# Altium schematic symbol library roboARM.SchLib: 22 symbols
Pins are listed as number, name and electrical type; pins without a type are passive.

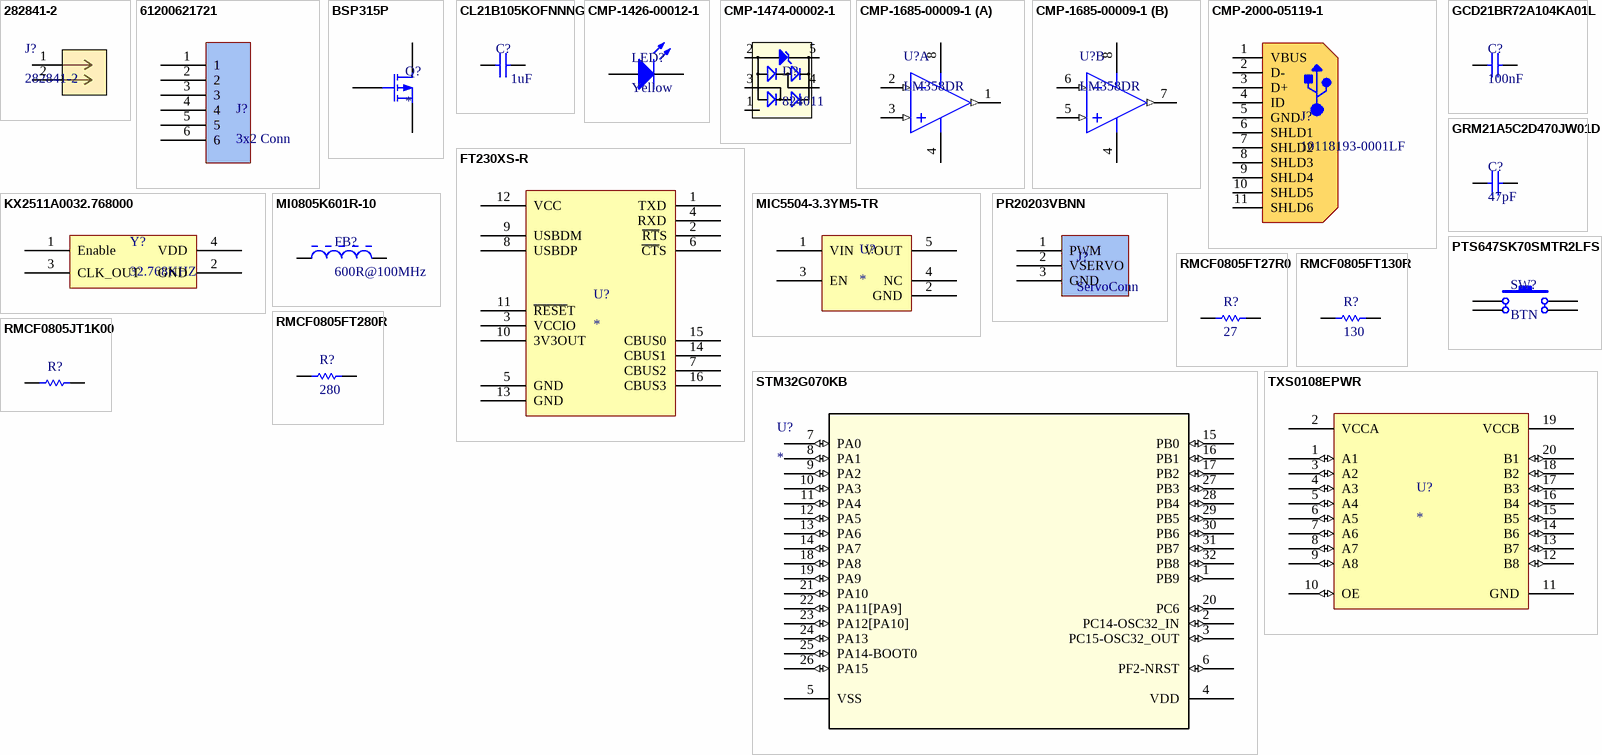
[diagram p0: symbols 282841-2 to TXS0108EPWR]

## 282841-2
designator J?
No Description Available; Manufacturer 1: CUI; Manufacturer Part Number 1: TB001-500-02BE; Vendor: TE Connectivity; Built_By: EMA_UL_Team; Manufacturer_Part_Number: 282841-2; Copyright: Copyright (C) 2016 Accelerated Designs. All rights reserved; RefDes: RefDes; Type: DEV; Value: Value; Supplier 1: Digi-Key; Stock 1: 347; Pricing 1: 1=0,59000, 10=0,32200, 25=0,24040, 50=0,21420, 100=0,21000, 250=0,18480, 500=0,16800, 1000=0,15120, 5000=0,11340 (USD); RoHS: No; Supplier Part Number 1: 102-6134-ND
footprint Clema
pins: 1, 2

## 61200621721
designator J?, comment 3x2 Conn
WURTH ELEKTRONIK         61200621721            Wire-To-Board Connector, WR-BHD Series, Through Hole, Header, 6 Contacts, 2.54 mm; Manufacturer 1: Wurth Electronics; Number of Positions: 6; Gender: Male; Connector Type: Male Pin; Pitch: 0.1inch; Supplier 1: Digi-Key; Manufacturer Part Number 1: 61200621721; Stock 1: 1980; Pricing 1: 1=1,09000, 10=1,05000, 50=0,92200, 100=0,79500, 360=0,66800, 720=0,57300 (USD); RoHS: Yes; Mount: Through Hole; Contact Plating: Gold; Contact Material: Copper; Color: Black; Number of Rows: 2; Packaging: Tray; Termination: Solder; Number of Contacts: 6; Row Spacing: 0.1inch; REACH SVHC: Unknown; ComponentLink1URL: https://datasheet.ciiva.com/28391/76598-28391952.pdf?src-supplier=Element14; ComponentLink1Description: https://datasheet.ciiva.com/28391/76598-28391952.pdf?src-supplier=Element14; Supplier Part Number 1: 732-5404-ND
footprint 61200621721 (6 pins, right angled, gold plating)
pins: 1, 2, 3, 4, 5, 6

## BSP315P
designator Q?
MOSFET, P, LOGIC, SOT-223; Manufacturer 1: Infineon; Manufacturer Part Number 1: BSP315P; Max Power Dissipation: 1.8W; Recovery Time: 46ns; Continuous Drain Current (ID): 1.17A; Nominal Vgs: -1.5V; Dual Supply Voltage: -60V; Supplier 1: Digi-Key; Stock 1: 1653; Pricing 1: 1=0,72000, 10=0,63700, 100=0,43450, 500=0,36308 (USD); RoHS: Yes; Case/Package: SOT-223; Number of Pins: 4; Min Operating Temperature: -55°C; Max Operating Temperature: 150°C; Packaging: Tape and Reel; Power Dissipation: 1.8W; Threshold Voltage: -1.5V; Termination: SMD/SMT; Width: 6.7mm; Halogen Free: Halogen Free; REACH SVHC: No SVHC; ComponentLink1URL: https://datasheet.ciiva.com/5774/46005-5774549.pdf?src-supplier=Farnell; ComponentLink1Description: https://datasheet.ciiva.com/5774/46005-5774549.pdf?src-supplier=Farnell; ComponentLink2URL: https://datasheet.ciiva.com/14109/jf611678-e-14109751.pdf?src-supplier=Distrelec; ComponentLink2Description: https://datasheet.ciiva.com/14109/jf611678-e-14109751.pdf?src-supplier=Distrelec; ComponentLink3URL: https://datasheet.ciiva.com/1190/46005-1190007.pdf?src-supplier=Element14; ComponentLink3Description: https://datasheet.ciiva.com/1190/46005-1190007.pdf?src-supplier=Element14; ComponentLink4URL: https://datasheet.ciiva.com/1190/46005-1190008.pdf?src-supplier=Element14; ComponentLink4Description: https://datasheet.ciiva.com/1190/46005-1190008.pdf?src-supplier=Element14; Supplier Part Number 1: BSP315PH6327XTSA1CT-ND
footprint INF-PG-SOT223_SC-73_M (SOT223, 4-Leads, Body 6.5x3.5mm, Pitch 2.3mm, IPC Low Density)
pins: 1 G, 2 D, 3 S

## CL21B105KOFNNNG
designator C?  Capacitance: 1uF  (hidden comment: CL21B105KOFNNNG)
Cap Ceramic 1uF 16V X7R 10% SMD 0805 125C Embossed T/R; Manufacturer: Samsung; Supplier 1: Digi-Key; Manufacturer Part Number: CL21B105KOFNNNG; Stock 1: 433201; Pricing 1: 1=0.1, 10=0.047, 100=0.0211, 500=0.0151, 1000=0.0119 (USD); Mount: Surface Mount; Case/Package: 0805; Case Code (Metric): 2012; Case Code (Imperial): 0805; Material: Ceramic; Min Operating Temperature: -55°C; Max Operating Temperature: 125°C; Package Quantity: 3000; Packaging: Tape and Reel; Voltage Rating: 16V; Tolerance: 10%; Dielectric: X7R; Voltage: 16V; Length: 2mm; Height: 1.25mm; Width: 0.049inch; Thickness: 0.053inch; Depth: 1.25mm; Lead Free: Lead Free; ComponentLink1URL: http://www.samsungsem.com/global/support/library/product-catalog/__icsFiles/afieldfile/2014/11/13/MLCC.pdf?src-supplier=Digi-Key; ComponentLink1Description: http://www.samsungsem.com/global/support/library/product-catalog/__icsFiles/afieldfile/2014/11/13/MLCC.pdf?src-supplier=Digi-Key; ComponentLink2URL: http://www1.futureelectronics.com/doc/SAMSUNG%20PASSIVE/CL05B104KQ5NNNC.pdf?src-supplier=Future+Electronics; ComponentLink2Description: http://www1.futureelectronics.com/doc/SAMSUNG%20PASSIVE/CL05B104KQ5NNNC.pdf?src-supplier=Future+Electronics; ComponentLink3URL: https://www.distrelec.biz/Web/Downloads/_e/ng/MLCC_CatalogDownload2013_ENG.pdf?mime=application%2Fpdf&src-supplier=Distrelec; ComponentLink3Description: https://www.distrelec.biz/Web/Downloads/_e/ng/MLCC_CatalogDownload2013_ENG.pdf?mime=application%2Fpdf&src-supplier=Distrelec; ComponentLink4URL: https://produktinfo.conrad.com/datenblaetter/450000-474999/455935-da-01-en-VS_KONDENSATOR_0805.pdf?src-supplier=Conrad; ComponentLink4Description: https://produktinfo.conrad.com/datenblaetter/450000-474999/455935-da-01-en-VS_KONDENSATOR_0805.pdf?src-supplier=Conrad; Supplier Part Number 1: 1276-6471-1-ND
footprint CAPC2012X10N (Chip Capacitor, 2-Leads, Body 2,00x1,25mm, IPC Medium Density)
pins: 1, 2

## CMP-1426-00012-1
designator LED?, comment Yellow
SMD mono-color Chip LED, WL-SMCW, Yellow; Manufacturer: Wuerth Elektronik; PartNumber: 150080YS75000; Manufacturer 1: Wurth Electronics; Luminous Intensity: 120mcd; Forward Current: 30mA; Forward Voltage: 2V; Viewing Angle: 140°; Wavelength: 590nm; Lens Style: Clear,Rectangular; Test Current: 20mA; Color: Yellow; ComponentLink1URL: http://www.we-online.com; PackageReference: 0805_A; ComponentLink2URL: http://katalog.we-online.com/led/datasheet/150080YS75000.pdf; ComponentLink1Description: Manufacturer URL; ComponentLink2Description: Datasheet; Supplier 1: Digi-Key; Manufacturer Part Number 1: 150080YS75000; Stock 1: 14510; Pricing 1: 1=0,18000, 50=0,16500, 100=0,14200, 500=0,12300 (USD); RoHS: Yes; Mount: Surface Mount; Case/Package: 0805; Case Code (Metric): 2012; Case Code (Imperial): 0805; Min Operating Temperature: -40°C; Max Operating Temperature: 85°C; Package Quantity: 4000; Packaging: Tape and Reel; Dominant Wavelength: 590nm; Length: 2mm; Height: 0.7mm; Width: 1.25mm; REACH SVHC: Unknown; ComponentLink3URL: https://datasheet.ciiva.com/23843/150080ys75000-23843256.pdf?src-supplier=Newark; ComponentLink3Description: https://datasheet.ciiva.com/23843/150080ys75000-23843256.pdf?src-supplier=Newark; ComponentLink4URL: https://datasheet.ciiva.com/29279/759438-da-01-en-chipled-0805-w-kl-gelb-150080ys75000-29279034.pdf?src-supplier=Conrad; ComponentLink4Description: https://datasheet.ciiva.com/29279/759438-da-01-en-chipled-0805-w-kl-gelb-150080ys75000-29279034.pdf?src-supplier=Conrad; ComponentLink5URL: https://datasheet.ciiva.com/22656/1911353-22656971.pdf?src-supplier=Element14; ComponentLink5Description: https://datasheet.ciiva.com/22656/1911353-22656971.pdf?src-supplier=Element14; ComponentLink6URL: https://datasheet.ciiva.com/29563/150080ys75000-29563019.pdf?src-supplier=Digi-Key; ComponentLink6Description: https://datasheet.ciiva.com/29563/150080ys75000-29563019.pdf?src-supplier=Digi-Key; ComponentLink7URL: https://datasheet.ciiva.com/29563/150080ys75000-29563020.pdf?src-supplier=Digi-Key; ComponentLink7Description: https://datasheet.ciiva.com/29563/150080ys75000-29563020.pdf?src-supplier=Digi-Key; ComponentLink8URL: https://datasheet.ciiva.com/29563/150080ys75000-29563021.pdf?src-supplier=Digi-Key; ComponentLink8Description: https://datasheet.ciiva.com/29563/150080ys75000-29563021.pdf?src-supplier=Digi-Key; Supplier Part Number 1: 732-4987-1-ND
footprint LED_0805 (Chip LED, 2-Leads, Body 2.0x1.3mm, IPC Medium Density)
pins: 1 K, 2 A

## CMP-1474-00002-1
designator D?, comment 824011
TVS Diode WE-TVS-HS, VRWM=5V; Manufacturer: Wuerth Elektronik; Manufacturer 1: Wurth Electronics; Reverse Stand Off Voltage: 5V; Direction: Unidirectional; Capacitance: 2pF; Polarity: Bidirectional; Number of Bidirectional Channels: 2; Min Breakdown Voltage: 6.1V; Clamping Voltage: 8.5V; Power Line Protection: Yes; Max Reverse Leakage Current: 5A; Test Current: 1mA; Max Surge Current: 12A; Operating Supply Voltage: 6V; ComponentLink2Description: Datasheet; PackageReference: SOT23_5L; ComponentLink2URL: http://katalog.we-online.de/kataloge/eisos/media/pdf/824011.pdf; ComponentLink1Description: Manufacturer URL; ComponentLink1URL: http://www.we-online.com; PartNumber: 824011; Supplier 1: Digi-Key; Manufacturer Part Number 1: 824011; Stock 1: 4096; Pricing 1: 1=0,85000, 10=0,80600, 50=0,75300, 100=0,69900, 500=0,61800 (USD); RoHS: Yes; Mount: Surface Mount; Case/Package: SOT-23; Number of Pins: 5; Min Operating Temperature: -55°C; Max Operating Temperature: 125°C; Package Quantity: 3000; Packaging: Tape and Reel; Reverse Standoff Voltage: 5V; Max Breakdown Voltage: 6.1V; ESD Protection: Yes; Breakdown Voltage: 6.1V; Termination: SMD/SMT; Number of Channels: 2; Working Voltage: 5V; Peak Pulse Current: 12A; Length: 2.9mm; Height: 1.16mm; Width: 2.8mm; REACH SVHC: Unknown; ComponentLink3URL: https://datasheet.ciiva.com/1280/824011-1280657.pdf?src-supplier=Farnell; ComponentLink3Description: https://datasheet.ciiva.com/1280/824011-1280657.pdf?src-supplier=Farnell; ComponentLink4URL: https://datasheet.ciiva.com/15063/824011-15063932.pdf?src-supplier=Digi-Key; ComponentLink4Description: https://datasheet.ciiva.com/15063/824011-15063932.pdf?src-supplier=Digi-Key; ComponentLink5URL: https://datasheet.ciiva.com/25624/0900766b8107e9bf-25624781.pdf?src-supplier=RSComponents; ComponentLink5Description: https://datasheet.ciiva.com/25624/0900766b8107e9bf-25624781.pdf?src-supplier=RSComponents; ComponentLink6URL: https://datasheet.ciiva.com/1276/824011-1276092.pdf?src-supplier=Element14; ComponentLink6Description: https://datasheet.ciiva.com/1276/824011-1276092.pdf?src-supplier=Element14; ComponentLink7URL: https://datasheet.ciiva.com/15063/824011-15063933.pdf?src-supplier=Digi-Key; ComponentLink7Description: https://datasheet.ciiva.com/15063/824011-15063933.pdf?src-supplier=Digi-Key; ComponentLink8URL: https://datasheet.ciiva.com/15063/824011-15063934.pdf?src-supplier=Digi-Key; ComponentLink8Description: https://datasheet.ciiva.com/15063/824011-15063934.pdf?src-supplier=Digi-Key; Supplier Part Number 1: 732-4465-1-ND
footprint SOT23_5L (SOT23_5L, 5-Leads, Body 3.60x2.9mm, Pitch 0.95mm)
pins: 1 NC, 2 GND, 3 I/O1, 4 I/O2, 5 VDD

## CMP-1685-00009-1
designator U?, comment LM358DR
Dual Operational Amplifier, 3 to 32 V, 0 to 70 degC, 8-Pin SOIC (D), Green (RoHS & no Sb/Br), Tape and Reel; DatasheetVersion: SLOS068T, 04/2015; ComponentLink1URL: http://www.ti.com/; ComponentLink2URL: http://www.ti.com/lit/ds/symlink/lm358.pdf; ComponentLink3Description: Package Specification; Code_JEDEC: MS-012; PackageDescription: 8-Pin Small Outline Integrated Circuit, Body 4.9 x 3.9 mm, Pitch 1.27 mm; ComponentLink2Description: Datasheet; PackageVersion: 4040047-3/M, 06/2011; ComponentLink1Description: Manufacturer URL; ComponentLink3URL: http://www.ti.com/lit/ml/msoi002j/msoi002j.pdf; PackageReference: D0008A
footprint D0008A_L (SOIC, 8-Leads, Body 5x4mm, Pitch 1.27mm, IPC High Density)
pins on every part: 4 GND (power), 8 VCC (power)
part A pins: 1 1OUT (out), 2 1IN- (in), 3 1IN+ (in)
part B pins: 5 2IN+ (in), 6 2IN- (in), 7 2OUT (out)

## CMP-2000-05119-1
designator J?, comment 10118193-0001LF
Micro USB B Type Receptacle, -55 to 85 degC, 5-Pin SMD, RoHS, Tape and Reel; Manufacturer: FCI; Manufacturer 1: Amphenol FCI; Insulation Resistance: 1000MOhms; Gender: Female; Current Rating: 1.8A; Number of Contacts: 5Contact; Connector Type: MicroUSBTypeBreceptacle; Mounting Angle: Right; Number of Ports: 1; Max Voltage Rating (AC): 100V; Pitch: 0.65mm; Datasheet Version: Rev. C, 05/2015; Packaging: Reel; Product Category: USBConnectors; Standard: USB2.0; Factory Pack Quantity: 1200; Operating Temperature Range: -55Cto+85C; Termination Style: SMD/SMT; Datasheet URL: http://datasheet.octopart.com/10118193-0001LF-FCI-datasheet-55953155.pdf; Contact Material: CopperAlloy; RoHS: Details; Contact Plating: Gold; Flammability Rating: UL94V-0; Manufacturer URL: http://www.fci.com/; Brand: FCI; Product: MicroUSBTypeBConnectors; Color: Black; Supplier 1: Digi-Key; Manufacturer Part Number 1: 10118193-0001LF; Stock 1: 33205; Pricing 1: 1=0,43000, 10=0,40500, 25=0,36440, 50=0,32400, 100=0,31040, 250=0,28344, 500=0,26994 (USD); Mount: Surface Mount,Horizontal; Number of Terminals: 5; Housing Material: Polymer; Min Operating Temperature: -55°C; Max Operating Temperature: 85°C; Package Quantity: 1200; Termination: Solder; Voltage Rating: 100V; Orientation: Right Angle; Features: Shielded; Length: 7.86mm; Depth: 5.67mm; Radiation Hardening: No; ComponentLink1URL: https://datasheet.ciiva.com/851/10118193-851106.pdf?src-supplier=Digi-Key; ComponentLink1Description: https://datasheet.ciiva.com/851/10118193-851106.pdf?src-supplier=Digi-Key; ComponentLink2URL: https://datasheet.ciiva.com/14802/10118193-0001lf-webpage-14802386.pdf?src-supplier=Arrow; ComponentLink2Description: https://datasheet.ciiva.com/14802/10118193-0001lf-webpage-14802386.pdf?src-supplier=Arrow; ComponentLink3URL: https://datasheet.ciiva.com/26853/getdatasheetpartid-418618-26853893.pdf?src-supplier=Verical; ComponentLink3Description: https://datasheet.ciiva.com/26853/getdatasheetpartid-418618-26853893.pdf?src-supplier=Verical; ComponentLink4URL: https://datasheet.ciiva.com/4598/10118193ac-197151-4598799.pdf?src-supplier=Mouser; ComponentLink4Description: https://datasheet.ciiva.com/4598/10118193ac-197151-4598799.pdf?src-supplier=Mouser; ComponentLink5URL: https://datasheet.ciiva.com/851/10118193-851107.pdf?src-supplier=Digi-Key; ComponentLink5Description: https://datasheet.ciiva.com/851/10118193-851107.pdf?src-supplier=Digi-Key; ComponentLink6URL: https://datasheet.ciiva.com/851/10118193-851108.pdf?src-supplier=Digi-Key; ComponentLink6Description: https://datasheet.ciiva.com/851/10118193-851108.pdf?src-supplier=Digi-Key; ComponentLink7URL: https://datasheet.ciiva.com/14618/70236827-14618887.pdf?src-supplier=Allied+Electronics; ComponentLink7Description: https://datasheet.ciiva.com/14618/70236827-14618887.pdf?src-supplier=Allied+Electronics; Supplier Part Number 1: 609-4616-1-ND
footprint FCI-10118193-0001LF-5_V (Micro, USB-B, 5-Leads, Body 7.86x5.05mm, Pitch 0.65 mm)
pins: 1 VBUS, 2 D-, 3 D+, 4 ID, 5 GND, 6 SHLD1, 7 SHLD2, 8 SHLD3, 9 SHLD4, 10 SHLD5, 11 SHLD6

## FT230XS-R
designator U?
IC USB SERIAL BASIC UART 16SSOP; Manufacturer 1: FTDI; Manufacturer Part Number 1: FT230XS-R; Data Rate: 12Mbps; Operating Supply Voltage: 5V; Number of Channels: 1; Max Supply Voltage: 5.5V; Min Supply Voltage: 2.97V; Interface: UART,USB; Operating Supply Current: 8mA; Memory Type: FLASH; Core Architecture: ARM; Data Bus Width: 32b; Max Frequency: 64MHz; Memory Size: 128KB; RAM Size: 36KB; Number of I/Os: 29; Number of ADC Channels: 13; Supplier 1: Digi-Key; Stock 1: 43316; Pricing 1: 1=2,04000, 25=1,97000, 100=1,90000, 250=1,71000, 500=1,54000, 1000=1,48063 (USD); RoHS: Yes; Mount: Surface Mount; Case/Package: SSOP; Number of Pins: 16; Weight: 0.004586oz; Min Operating Temperature: -40°C; Max Operating Temperature: 85°C; Packaging: Tape and Reel; Package Quantity: 3000; Length: 5mm; Height: 0.059inch; Width: 0.157inch; ComponentLink1URL: https://datasheet.ciiva.com/1787/ds-ft230x-1787315.pdf?src-supplier=Digi-Key; ComponentLink1Description: https://datasheet.ciiva.com/1787/ds-ft230x-1787315.pdf?src-supplier=Digi-Key; ComponentLink2URL: https://datasheet.ciiva.com/4787/ds-ft230x-5395-4787571.pdf?src-supplier=Mouser; ComponentLink2Description: https://datasheet.ciiva.com/4787/ds-ft230x-5395-4787571.pdf?src-supplier=Mouser; ComponentLink3URL: https://datasheet.ciiva.com/30478/0900766b811020cb-30478167.pdf?src-supplier=RSComponents; ComponentLink3Description: https://datasheet.ciiva.com/30478/0900766b811020cb-30478167.pdf?src-supplier=RSComponents; ComponentLink4URL: https://datasheet.ciiva.com/1787/ft-x-series-1787316.pdf?src-supplier=Digi-Key; ComponentLink4Description: https://datasheet.ciiva.com/1787/ft-x-series-1787316.pdf?src-supplier=Digi-Key; ComponentLink5URL: https://datasheet.ciiva.com/1787/ft-x-series-1787317.pdf?src-supplier=Digi-Key; ComponentLink5Description: https://datasheet.ciiva.com/1787/ft-x-series-1787317.pdf?src-supplier=Digi-Key; Supplier Part Number 1: 768-1135-1-ND; ComponentLink6URL: https://datasheet.ciiva.com/71223/stm32g070cb-1517433-71223599.pdf?src-supplier=Mouser; ComponentLink6Description: https://datasheet.ciiva.com/71223/stm32g070cb-1517433-71223599.pdf?src-supplier=Mouser
footprint SOP64P600X175-16N (SOP, 16-Leads, Body 4,90x3,90mm, Pitch 0,64mm, IPC Medium Density)
pins: 1 TXD, 2 ~{RT}S, 3 VCCIO, 4 RXD, 5 GND, 6 ~{CT}S, 7 CBUS2, 8 USBDP, 9 USBDM, 10 3V3OUT, 11 ~{RESE}T, 12 VCC, 13 GND, 14 CBUS1, 15 CBUS0, 16 CBUS3

## GCD21BR72A104KA01L
designator C?, comment 100nF
CAP CER 0.1UF 100V X7R 0805; Manufacturer 1: Murata; Manufacturer Part Number 1: GCD21BR72A104KA01L; Supplier 1: Digi-Key; Stock 1: 24933; Pricing 1: 1=0,23000, 10=0,15700, 100=0,08890, 500=0,06278, 1000=0,05494 (USD); RoHS: No; ComponentLink1URL: http://search.murata.co.jp/Ceramy/image/img/A01X/partnumbering_e_02.pdf?src-supplier=Digi-Key; ComponentLink1Description: http://search.murata.co.jp/Ceramy/image/img/A01X/partnumbering_e_02.pdf?src-supplier=Digi-Key; ComponentLink2URL: http://search.murata.co.jp/Ceramy/image/img/A01X/G101/ENG/GCD21BR72A104KA01-01.pdf?src-supplier=Digi-Key; ComponentLink2Description: http://search.murata.co.jp/Ceramy/image/img/A01X/G101/ENG/GCD21BR72A104KA01-01.pdf?src-supplier=Digi-Key; Supplier Part Number 1: 490-14407-1-ND
footprint CAPC2012X10N (Chip Capacitor, 2-Leads, Body 2,00x1,25mm, IPC Medium Density)
pins: 1, 2

## GRM21A5C2D470JW01D
designator C?, comment 47pF
Murata 47pF Multilayer Ceramic Capacitor (MLCC) 200 V 5% C0G dielectric GRM SMD max op. temp. +125C; Manufacturer Part Number 1: GRM21A5C2D470JW01D; Voltage Rating: 200V; Temperature Coefficient: 30ppm/°C; Supplier 1: Digi-Key; Manufacturer 1: Murata; Stock 1: 11086; Pricing 1: 1=0,31000, 10=0,21300, 100=0,12080, 500=0,08530, 1000=0,07463 (USD); RoHS: Yes; Mount: Surface Mount; Case/Package: 0805; Weight: 0.000335oz; Case Code (Imperial): 0805; Case Code (Metric): 2012; Dielectric Material: Ceramic; Min Operating Temperature: -55°C; Max Operating Temperature: 125°C; Capacitance: 47pF; Packaging: Tape and Reel; Voltage: 200V; Dielectric: C0G; Termination: SMD/SMT; Tolerance: 5%; Composition: Ceramic; Voltage Rating (DC): 200V; Package Quantity: 4000; Length: 2mm; Height: 1mm; Width: 0.049inch; Thickness: 0.051inch; Depth: 1.25mm; ComponentLink1URL: http://www.mouser.com/ds/2/281/c02e-2905.pdf?src-supplier=Mouser; ComponentLink1Description: http://www.mouser.com/ds/2/281/c02e-2905.pdf?src-supplier=Mouser; ComponentLink2URL: https://search.murata.co.jp/Ceramy/image/img/A01X/G101/ENG/GRM21A5C2D470JW01-01.pdf?src-supplier=Digi-Key; ComponentLink2Description: https://search.murata.co.jp/Ceramy/image/img/A01X/G101/ENG/GRM21A5C2D470JW01-01.pdf?src-supplier=Digi-Key; ComponentLink3URL: http://search.murata.co.jp/Ceramy/image/img/A01X/G101/ENG/GRM21A5C2D470JW01-01.pdf?src-supplier=Digi-Key; ComponentLink3Description: http://search.murata.co.jp/Ceramy/image/img/A01X/G101/ENG/GRM21A5C2D470JW01-01.pdf?src-supplier=Digi-Key; Supplier Part Number 1: 490-14653-1-ND
footprint CAPC2012X10N (Chip Capacitor, 2-Leads, Body 2,00x1,25mm, IPC Medium Density)
pins: 1, 2

## KX2511A0032.768000
designator Y?, comment 32.768KHZ
OSCILLATOR XO 32.768KHZ CMOS SMD; Manufacturer 1: Diodes; Manufacturer Part Number 1: KX2511A0032.768000; Max Supply Current: 15uA; Frequency Stability: 20ppm; Supplier 1: Digi-Key; Stock 1: 49; Pricing 1: 1=1,42000, 10=1,35900, 50=1,32720, 100=1,13760, 500=1,10600, 1000=0,93220, 3000=0,88480, 6000=0,85320, 12000=0,82160 (USD); RoHS: Yes; Mount: Surface Mount; Case/Package: SMD/SMT; Min Operating Temperature: -20°C; Max Operating Temperature: 70°C; Package Quantity: 100; Frequency: 32.768kHz; Packaging: Cut Strip; Length: 0.098inch; Height: 0.039inch; Width: 0.079inch; ComponentLink1URL: https://datasheet.ciiva.com/18649/kx251-rev-c-18649469.pdf?src-supplier=Digi-Key; ComponentLink1Description: https://datasheet.ciiva.com/18649/kx251-rev-c-18649469.pdf?src-supplier=Digi-Key; Supplier Part Number 1: KX2511A0032.768000-ND
footprint KX251
pins: 1 Enable, 2 GND, 3 CLK_OUT, 4 VDD

## MI0805K601R-10
designator FB?, comment 600R@100MHz
FERRITE BEAD 600 OHM 0805 1LN; Manufacturer 1: Laird; Manufacturer Part Number 1: MI0805K601R-10; Current Rating: 1.5A; Impedance: 600R; Number of Lines: 1; DC Resistance (DCR): 100mR; Test Frequency: 100MHz; Supplier 1: Digi-Key; Stock 1: 98142; Pricing 1: 1=0,20000, 10=0,16400, 25=0,12800, 50=0,10600, 100=0,09130, 250=0,07304, 500=0,06574, 1000=0,05478 (USD); RoHS: Yes; Mount: Surface Mount; Case/Package: 0805; Weight: 0.00392oz; Case Code (Metric): 2012; Case Code (Imperial): 0805; Core Material: Ferrite; Contact Plating: Tin,Matte; Material: Ferrite; Min Operating Temperature: -40°C; Max Operating Temperature: 125°C; Package Quantity: 1; Packaging: Tape and Reel; Max Current Rating: 1.5A; Max DC Current: 1.5A; Termination: SMD/SMT; Frequency: 100MHz; Length: 2mm; Height: 0.043inch; Width: 0.049inch; Depth: 1.45mm; REACH SVHC: Unknown; Lead Free: Lead Free; ComponentLink1URL: https://datasheet.ciiva.com/22650/1685918-22650417.pdf?src-supplier=Element14; ComponentLink1Description: https://datasheet.ciiva.com/22650/1685918-22650417.pdf?src-supplier=Element14; ComponentLink2URL: https://datasheet.ciiva.com/3082/mi0805k601r-10-a-vp-3082219.pdf?src-supplier=Avnet; ComponentLink2Description: https://datasheet.ciiva.com/3082/mi0805k601r-10-a-vp-3082219.pdf?src-supplier=Avnet; ComponentLink3URL: https://datasheet.ciiva.com/1013/mi0805k601r-10-b-1013299.pdf?src-supplier=Digi-Key; ComponentLink3Description: https://datasheet.ciiva.com/1013/mi0805k601r-10-b-1013299.pdf?src-supplier=Digi-Key; Supplier Part Number 1: 240-2390-1-ND
footprint LIRD-MI0805K601R-10-2_V (Chip Bead, 2-Leads, Body 2.2 x1.45 mm)
pins: 1, 2

## MIC5504-3.3YM5-TR
designator U?
LDO VOLT REG, 0.3A, 3.3V, SOT-23-5; Manufacturer 1: Microchip Micrel; Manufacturer Part Number 1: MIC5504-3.3YM5-TR; Min Input Voltage: 2.5V; Max Input Voltage: 5.5V; Output Current: 300mA; Dropout Voltage: 380mV; Number of Outputs: 1; Quiescent Current: 38uA; Accuracy: 3%; Operating Supply Current: 42uA; Power Supply Rejection Ratio (PSRR): 60dB; Output Type: Fixed; Supplier 1: Digi-Key; Stock 1: 76136; Pricing 1: 1=0,11000, 25=0,09000 (USD); RoHS: Yes; Mount: Surface Mount; Case/Package: SOT-23-5; Number of Pins: 5; Min Operating Temperature: -40°C; Max Operating Temperature: 125°C; Nominal Output Voltage: 3.3V; Packaging: Tape and Reel; Output Voltage: 3.3V; Max Output Current: 300mA; Length: 2.9mm; Height: 1.1mm; Width: 1.6mm; REACH SVHC: No SVHC; ComponentLink1URL: https://datasheet.ciiva.com/46425/1856860-46425639.pdf?src-supplier=Element14; ComponentLink1Description: https://datasheet.ciiva.com/46425/1856860-46425639.pdf?src-supplier=Element14; Supplier Part Number 1: 576-4764-1-ND
footprint SOT95P280X145-5N (SOT23, 5-Leads, Body 2,90x2,80mm, Pitch 0,95mm, IPC Medium Density)
pins: 1 VIN, 2 GND, 3 EN, 4 NC, 5 VOUT

## PR20203VBNN
designator J?, comment ServoConn
CONN HEADER VERT 3POS 2.54MM; Manufacturer 1: METZ CONNECT; Manufacturer Part Number 1: PR20203VBNN; Supplier 1: Digi-Key; Stock 1: 3993; Pricing 1: 1=0,10000, 10=0,05600, 100=0,03480, 500=0,02880, 1000=0,02520, 5000=0,02160, 10000=0,02100 (USD); RoHS: No; ComponentLink1URL: https://www.metz-connect.com/us/system/files/productfiles/Data_sheet_PR202XXVBNN_PR202XXVBNN_OFF-024022P.pdf?src-supplier=Digi-Key; ComponentLink1Description: https://www.metz-connect.com/us/system/files/productfiles/Data_sheet_PR202XXVBNN_PR202XXVBNN_OFF-024022P.pdf?src-supplier=Digi-Key; ComponentLink2URL: http://www.farnell.com/datasheets/2372088.pdf?src-supplier=Newark; ComponentLink2Description: http://www.farnell.com/datasheets/2372088.pdf?src-supplier=Newark; Supplier Part Number 1: 1849-1003-ND
footprint 3_POS_PIN
pins: 1 PWM, 2 VSERVO, 3 GND

## PTS647SK70SMTR2LFS
designator SW?, comment BTN
INWALL LENS COVER , WHITE , 6 (; Manufacturer: ITT C&K; Manufacturer Part Number: PTS647SK70SMTR2LFS; Supplier 1: Digi-Key; Stock 1: 97905; Pricing 1: 1 = 0,14000, 10 = 0,14000, 25 = 0,13520, 50 = 0,13020, 100 = 0,12310, 250 = 0,11580, 500 = 0,11100 (USD); RoHS: No; Supplier Part Number 1: PTS647SK70SMTR2LFSCT-ND
footprint Button
pins: 1, 2 1, 3 2, 4 3

## RMCF0805FT27R0
designator R?, comment 27
RES 27 OHM 1/8W 1% 0805; Manufacturer 1: Stackpole Electronics; Manufacturer Part Number 1: RMCF0805FT27R0; Resistance: 27R; Max Power Dissipation: 125mW; Temperature Coefficient: 100ppm/°C; Supplier 1: Digi-Key; Stock 1: 37447; Pricing 1: 1=0,10000, 10=0,02700, 100=0,01090, 1000=0,00490, 2500=0,00425 (USD); RoHS: Yes; Mount: Surface Mount; Case/Package: 0805; Case Code (Metric): 2012; Case Code (Imperial): 0805; Contact Plating: Tin,Matte; Min Operating Temperature: -55°C; Max Operating Temperature: 155°C; Packaging: Tape and Reel; Tolerance: 1%; Package Quantity: 5000; Composition: Thick Film; Number of Terminations: 2; Features: Automotive AEC-Q200; Length: 0.079inch; Height: 0.026inch; Width: 0.049inch; Radiation Hardening: No; Lead Free: Lead Free; ComponentLink1URL: https://www.seielect.com/catalog/SEI-Packaging.pdf?src-supplier=Digi-Key; ComponentLink1Description: https://www.seielect.com/catalog/SEI-Packaging.pdf?src-supplier=Digi-Key; ComponentLink2URL: https://www.seielect.com/catalog/SEI-RMCF_RMCP.pdf?src-supplier=Avnet; ComponentLink2Description: https://www.seielect.com/catalog/SEI-RMCF_RMCP.pdf?src-supplier=Avnet; ComponentLink3URL: https://www.seielect.com/Catalog/SEI-RMCF_RMCP.pdf?src-supplier=Digi-Key; ComponentLink3Description: https://www.seielect.com/Catalog/SEI-RMCF_RMCP.pdf?src-supplier=Digi-Key; ComponentLink4URL: http://www.seielect.com/Catalog/SEI-RMCF_RMCP.pdf?src-supplier=Digi-Key; ComponentLink4Description: http://www.seielect.com/Catalog/SEI-RMCF_RMCP.pdf?src-supplier=Digi-Key; Supplier Part Number 1: RMCF0805FT27R0CT-ND
footprint RESC2012X07N (Chip Resistor, 2-Leads, Body 2,00x1,25mm, IPC Medium Density)
pins: 1, 2

## RMCF0805FT130R
designator R?, comment 130
Res Thick Film 0805 130 Ohm 1% 0.125W(1/8W) ±100ppm/C Pad SMD Automotive T/R; Manufacturer 1: Stackpole Electronics; Manufacturer Part Number 1: RMCF0805FT130R; Resistance: 130R; Max Power Dissipation: 125mW; Temperature Coefficient: 100ppm/°C; Supplier 1: Digi-Key; Stock 1: 11107; Pricing 1: 1=0,10000, 10=0,02700, 100=0,01090, 1000=0,00490, 2500=0,00425 (USD); RoHS: Yes; Mount: Surface Mount; Case/Package: 0805; Case Code (Metric): 2012; Case Code (Imperial): 0805; Contact Plating: Tin,Matte; Min Operating Temperature: -55°C; Max Operating Temperature: 155°C; Tolerance: 1%; Packaging: Tape and Reel; Composition: Thick Film; Number of Terminations: 2; Military Standard: Not; Features: Automotive AEC-Q200; Length: 2mm; Height: 0.026inch; Width: 0.049inch; Depth: 1.25mm; Radiation Hardening: No; ComponentLink1URL: https://datasheet.ciiva.com/15193/getdatasheetpartid-717599-15193532.pdf?src-supplier=Verical; ComponentLink1Description: https://datasheet.ciiva.com/15193/getdatasheetpartid-717599-15193532.pdf?src-supplier=Verical; Supplier Part Number 1: RMCF0805FT130RCT-ND
footprint RESC2012X07N (Chip Resistor, 2-Leads, Body 2,00x1,25mm, IPC Medium Density)
pins: 1, 2

## RMCF0805FT280R
designator R?, comment 280
Res Thick Film 0805 280 Ohm 1% 0.125W(1/8W) ±100ppm/C Pad SMD Automotive T/R; Manufacturer 1: Stackpole Electronics; Manufacturer Part Number 1: RMCF0805FT280R; Resistance: 280R; Max Power Dissipation: 125mW; Temperature Coefficient: 100ppm/°C; Supplier 1: Digi-Key; Stock 1: 4051; Pricing 1: 1=0,10000, 10=0,02700, 100=0,01090, 1000=0,00490, 2500=0,00425 (USD); RoHS: Yes; Mount: Surface Mount; Case/Package: 0805; Case Code (Metric): 2012; Case Code (Imperial): 0805; Contact Plating: Tin,Matte; Min Operating Temperature: -55°C; Max Operating Temperature: 155°C; Tolerance: 1%; Packaging: Tape and Reel; Composition: Thick Film; Number of Terminations: 2; Features: Automotive AEC-Q200; Length: 0.079inch; Height: 0.026inch; Width: 0.049inch; Radiation Hardening: No; Lead Free: Lead Free; ComponentLink1URL: http://components.arrow.com/part/dataview/47832257S8035356N1174?src-supplier=Arrow; ComponentLink1Description: http://components.arrow.com/part/dataview/47832257S8035356N1174?src-supplier=Arrow; ComponentLink2URL: https://www.seielect.com/catalog/SEI-RMCF_RMCP.pdf?src-supplier=Avnet; ComponentLink2Description: https://www.seielect.com/catalog/SEI-RMCF_RMCP.pdf?src-supplier=Avnet; ComponentLink3URL: https://www.seielect.com/Catalog/SEI-RMCF_RMCP.pdf?src-supplier=Digi-Key; ComponentLink3Description: https://www.seielect.com/Catalog/SEI-RMCF_RMCP.pdf?src-supplier=Digi-Key; ComponentLink4URL: https://www.seielect.com/catalog/SEI-Packaging.pdf?src-supplier=Digi-Key; ComponentLink4Description: https://www.seielect.com/catalog/SEI-Packaging.pdf?src-supplier=Digi-Key; Supplier Part Number 1: RMCF0805FT280RCT-ND
footprint RESC2012X07N (Chip Resistor, 2-Leads, Body 2,00x1,25mm, IPC Medium Density)
pins: 1, 2

## RMCF0805JT1K00
designator R?, comment 1K  (value not drawn)
RES 1K OHM 5% 1/8W 0805; Manufacturer: Stackpole Electronics; Manufacturer Part Number: RMCF0805JT1K00; Resistance: 1kR; Power Rating: 125mW; Temperature Coefficient: 100ppm/°C; Supplier 1: Digi-Key; Stock 1: 1042028; Pricing 1: 1=0.1, 10=0.02, 100=0.0082, 1000=0.0037, 2500=0.0032 (USD); Mount: Surface Mount; Case/Package: 0805; Case Code (Metric): 2012; Case Code (Imperial): 0805; Contact Plating: Tin,Matte; Min Operating Temperature: -55°C; Max Operating Temperature: 155°C; Packaging: Tape and Reel; Tolerance: 5%; Composition: Thick Film; Number of Terminations: 2; Military Standard: Not; Max Power Dissipation: 125mW; Features: Automotive AEC-Q200; Length: 2mm; Height: 0.026inch; Width: 0.049inch; Depth: 1.25mm; Radiation Hardening: No; Lead Free: Lead Free; ComponentLink1URL: https://www.verical.com/server-webapp/html/getDatasheet?partID=362050&src-supplier=Verical; ComponentLink1Description: https://www.verical.com/server-webapp/html/getDatasheet?partID=362050&src-supplier=Verical; ComponentLink2URL: https://www.seielect.com/catalog/SEI-RMCF_RMCP.pdf?src-supplier=Avnet; ComponentLink2Description: https://www.seielect.com/catalog/SEI-RMCF_RMCP.pdf?src-supplier=Avnet; ComponentLink3URL: http://www.seielect.com/catalog/sei-rmc.pdf?src-supplier=Future+Electronics; ComponentLink3Description: http://www.seielect.com/catalog/sei-rmc.pdf?src-supplier=Future+Electronics; ComponentLink4URL: https://www.seielect.com/catalog/SEI-Packaging.pdf?src-supplier=Digi-Key; ComponentLink4Description: https://www.seielect.com/catalog/SEI-Packaging.pdf?src-supplier=Digi-Key; ComponentLink5URL: http://components.arrow.com/part/dataview/50503305S7171764N1174?src-supplier=Arrow; ComponentLink5Description: http://components.arrow.com/part/dataview/50503305S7171764N1174?src-supplier=Arrow; ComponentLink6URL: https://www.seielect.com/Catalog/SEI-RMCF_RMCP.pdf?src-supplier=Digi-Key; ComponentLink6Description: https://www.seielect.com/Catalog/SEI-RMCF_RMCP.pdf?src-supplier=Digi-Key; Supplier Part Number 1: RMCF0805JT1K00CT-ND
footprint RESC2012X07N (Chip Resistor, 2-Leads, Body 2,00x1,25mm, IPC Medium Density)
pins: 1, 2

## STM32G070KB
designator U?
STM32G070KB; Manufacturer_Part_Number: STM32G0_LQFP32_T1; Manufacturer Part Number 1: STM32G070KBT6; Built_By: EMA_Jessica; Vendor: STMicroelectronics; Interface: I2C,SPI,I2S,USART,LIN; Memory Type: FLASH; Core Architecture: ARM; Data Bus Width: 32b; Max Frequency: 64MHz; Memory Size: 128KB; RAM Size: 36KB; Number of I/Os: 29; Number of ADC Channels: 13; Max Supply Voltage: 3.6V; Min Supply Voltage: 2V; Copyright: Copyright (C) 2016 Accelerated Designs. All rights reserved; RefDes: RefDes; Type: DEV; Value: Value; Supplier 1: Mouser; Manufacturer 1: STMicroelectronics; Stock 1: 627; Pricing 1: 1=1,60000, 10=1,36000, 100=1,09000, 500=0,95700, 1000=0,79300, 2500=0,73800, 5000=0,71100, 10000=0,68300, 25000=0,65700 (USD); RoHS: No; Case/Package: LQFP; Min Operating Temperature: -40°C; Max Operating Temperature: 85°C; Package Quantity: 250; ComponentLink1URL: https://datasheet.ciiva.com/71223/stm32g070cb-1517433-71223599.pdf?src-supplier=Mouser; ComponentLink1Description: https://datasheet.ciiva.com/71223/stm32g070cb-1517433-71223599.pdf?src-supplier=Mouser; Supplier Part Number 1: 511-STM32G070KBT6
footprint LQFP-32
pins: 1 PB9 (io), 2 PC14-OSC32_IN (io), 3 PC15-OSC32_OUT (io), 4 VDD (power), 5 VSS (power), 6 PF2-NRST (io), 7 PA0 (io), 8 PA1 (io), 9 PA2 (io), 10 PA3 (io), 11 PA4 (io), 12 PA5 (io), 13 PA6 (io), 14 PA7 (io), 15 PB0 (io), 16 PB1 (io), 17 PB2 (io), 18 PA8 (io), 19 PA9 (io), 20 PC6 (io), 21 PA10 (io), 22 PA11[PA9] (io), 23 PA12[PA10] (io), 24 PA13 (io), 25 PA14-BOOT0 (io), 26 PA15 (io), 27 PB3 (io), 28 PB4 (io), 29 PB5 (io), 30 PB6 (io), 31 PB7 (io), 32 PB8 (io)

## TXS0108EPWR
designator U?
TRANSLATOR, VOLTAGE, 8BIT, 20TSSOP; Manufacturer 1: Texas Instruments; Manufacturer Part Number 1: TXS0108EPWR; Number of Inputs: 8; Propagation Delay: 4.8ns; Min Supply Voltage: 1.2V; Max Supply Voltage: 5.5V; Data Rate: 60Mbps; Rise Time: 6.3ns; Output Current: 620uA; High Level Output Current: -50mA; Low Level Output Current: 50mA; Turn-On Delay Time: 312ns; Quiescent Current: 3uA; Nominal Supply Current: 8uA; Supplier 1: Digi-Key; Stock 1: 31907; Pricing 1: 1=1,66000, 10=1,49000, 100=1,19790, 500=0,98416, 1000=0,81545 (USD); RoHS: Yes; Mount: Surface Mount; Case/Package: TSSOP; Number of Pins: 20; Weight: 0.002716oz; Contact Plating: Gold; Min Operating Temperature: -40°C; Max Operating Temperature: 85°C; Number of Channels: 8; Package Quantity: 1; Packaging: Tape and Reel; Logic Function: Translator; Number of Bits: 8; Termination: SMD/SMT; Output Type: Voltage; Length: 6.5mm; Height: 1.15mm; Width: 4.4mm; Radiation Hardening: No; REACH SVHC: No SVHC; Lead Free: Lead Free; ComponentLink1URL: https://datasheet.ciiva.com/14287/txs0108e-14287280.pdf?src-supplier=Farnell; ComponentLink1Description: https://datasheet.ciiva.com/14287/txs0108e-14287280.pdf?src-supplier=Farnell; ComponentLink2URL: https://datasheet.ciiva.com/4834/sces642b-127094-4834401.pdf?src-supplier=Mouser; ComponentLink2Description: https://datasheet.ciiva.com/4834/sces642b-127094-4834401.pdf?src-supplier=Mouser; ComponentLink3URL: https://datasheet.ciiva.com/15096/getdatasheetpartid-322119-15096276.pdf?src-supplier=Verical; ComponentLink3Description: https://datasheet.ciiva.com/15096/getdatasheetpartid-322119-15096276.pdf?src-supplier=Verical; ComponentLink4URL: https://datasheet.ciiva.com/28653/1714661-28653429.pdf?src-supplier=Element14; ComponentLink4Description: https://datasheet.ciiva.com/28653/1714661-28653429.pdf?src-supplier=Element14; ComponentLink5URL: https://datasheet.ciiva.com/1899/txs0108e-1899604.pdf?src-supplier=Digi-Key; ComponentLink5Description: https://datasheet.ciiva.com/1899/txs0108e-1899604.pdf?src-supplier=Digi-Key; ComponentLink6URL: https://datasheet.ciiva.com/1899/txs0108e-1899605.pdf?src-supplier=Digi-Key; ComponentLink6Description: https://datasheet.ciiva.com/1899/txs0108e-1899605.pdf?src-supplier=Digi-Key; ComponentLink7URL: https://datasheet.ciiva.com/1899/txs0108e-1899606.pdf?src-supplier=Digi-Key; ComponentLink7Description: https://datasheet.ciiva.com/1899/txs0108e-1899606.pdf?src-supplier=Digi-Key; ComponentLink8URL: https://datasheet.ciiva.com/1508/1815244-1508732.pdf?src-supplier=Element14; ComponentLink8Description: https://datasheet.ciiva.com/1508/1815244-1508732.pdf?src-supplier=Element14; ComponentLink9URL: https://datasheet.ciiva.com/14287/txs0108e-14287532.pdf?src-supplier=Avnet; ComponentLink9Description: https://datasheet.ciiva.com/14287/txs0108e-14287532.pdf?src-supplier=Avnet; ComponentLink10URL: https://datasheet.ciiva.com/26039/txs0108e-26039599.pdf?src-supplier=Avnet+Europe; ComponentLink10Description: https://datasheet.ciiva.com/26039/txs0108e-26039599.pdf?src-supplier=Avnet+Europe; Supplier Part Number 1: 296-23011-1-ND
footprint TSOP65P640X120-20N (TSOP, 20-Leads, Body 6,50x4,40mm, Pitch 0,65mm, IPC Medium Density)
pins: 1 A1 (io), 2 VCCA (power), 3 A2 (io), 4 A3 (io), 5 A4 (io), 6 A5 (io), 7 A6 (io), 8 A7 (io), 9 A8 (io), 10 OE (io) "PULL TO GND", 11 GND (power), 12 B8 (io), 13 B7 (io), 14 B6 (io), 15 B5 (io), 16 B4 (io), 17 B3 (io), 18 B2 (io), 19 VCCB (power), 20 B1 (io)